# Altium footprint library Two Terminals THC.PcbLib: 6 footprints
Each footprint in its own frame and in the unit in brackets; x right, y up, seen from the top. Pads: shape width x height; smd on the part's side, far side on the other; paste and mask are expansions set on the pad; w line width, h text height; cw(c..) or ccw(c..) is an arc to the next point about the centre after c.
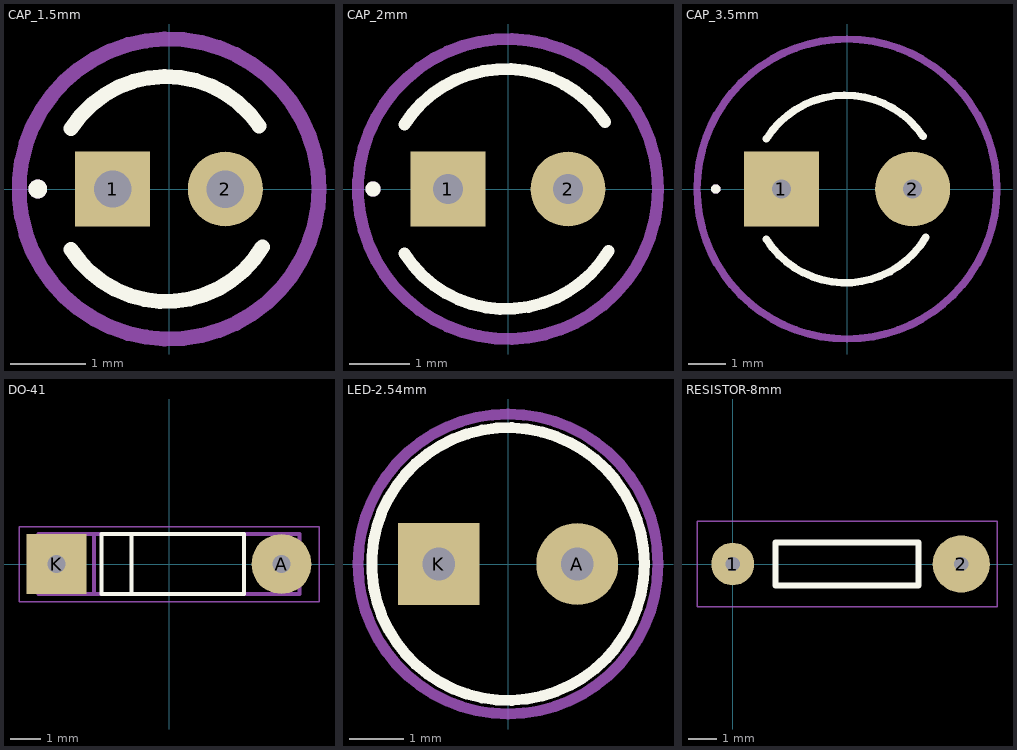
[diagram p0: the footprints below, top view; thin cyan lines are the x and y axes]

## CAP_1.5mm [mm]
pads (2):
  rect 1x1 hole 0.5: 1(-0.75,0)
  round 1 hole 0.5: 2(0.75,0)
Top Overlay:
  circle w0.15: c-1.75,0 r0.05
  lines w0.2: -1.305,-0.806 ccw(c-0.04,0) 1.246,-0.773 ; -1.305,0.806 cw(c-0.04,0) 1.203,0.84
Mechanical 13:
  circle w0.15: c-1.75,0 r0.05
  circle w0.2: c0,0 r2
Mechanical 15:
  circle w0.1: c0,0 r2

## CAP_2mm [mm]
pads (2):
  rect 1.25x1.25 / inner rect 1.35x1.35 / far side rect 1.35x1.35 hole 0.5: 1(-1,0)
  round 1.25 / inner round 1.35 / far side round 1.35 hole 0.5: 2(1,0)
Top Overlay:
  circle w0.15: c-2.25,0 r0.05
  lines w0.2: -1.727,-1.075 ccw(c-0.04,0) 1.674,-1.03 ; -1.727,1.075 cw(c-0.04,0) 1.617,1.12
Mechanical 13:
  circle w0.15: c-2.25,0 r0.05
  circle w0.2: c0,0 r2.5
Mechanical 15:
  circle w0.1: c0,0 r2.5

## CAP_3.5mm [mm]
pads (2):
  rect 2x2 hole 0.5: 1(-1.75,0)
  round 2 / inner round 1.35 / far side round 1.35 hole 0.5: 2(1.75,0)
Top Overlay:
  circle w0.15: c-3.5,0 r0.05
  lines w0.2: -2.148,-1.344 ccw(c-0.04,0) 2.103,-1.288 ; -2.148,1.344 cw(c-0.04,0) 2.031,1.4
Mechanical 13:
  circle w0.15: c-3.5,0 r0.05
  circle w0.2: c0,0 r4
Mechanical 15:
  circle w0.1: c0,0 r4

## DO-41 [mm]
pads (2):
  round 2 hole 0.6: A(3.75,0)
  rect 2x2 hole 0.6: K(-3.75,0)
Top Overlay:
  lines w0.127: -1.25,-1 -1.25,1 ; -2.25,-1 2.5,-1 2.5,1 -2.25,1 -2.25,-1
Mechanical 13:
  lines w0.127: -2.5,1 -2.5,-1 4.35,-1 4.35,0 4.35,1 -2.15,1 -4.35,1 -4.35,0 -4.35,-1 -1.775,-1
Mechanical 15:
  lines w0.05: -5,-1.25 5,-1.25 5,1.25 -5,1.25 -5,-1.25
3D body "step_temp.STEP": height 2, standoff -22.86, extent -4.242,-1 4.242,1

## LED-2.54mm [mm]
pads (2):
  round 1.5 hole 0.6: A(1.27,0)
  rect 1.5x1.5 hole 0.6: K(-1.27,0)
Top Overlay:
  circle w0.2: c0,0 r2.5
Mechanical 13:
  circle w0.2: c0,0 r2.75
Mechanical 15:
  circle w0.1: c0,0 r2.75

## RESISTOR-8mm [mm]
pads (2):
  round 1.5 hole 0.5: 1(0,0)
  round 2 hole 0.5: 2(8,0)
Top Overlay:
  lines w0.2: 1.5,-0.75 6.5,-0.75 6.5,0.75 1.5,0.75 1.5,-0.75
Mechanical 13:
  lines w0.05: -1.25,-1.5 9.25,-1.5 9.25,1.5 -1.25,1.5 -1.25,-1.5